# Altium schematic symbol library LM358AP.SchLib: 1 symbol
Pins are listed as number, name and electrical type; pins without a type are passive.

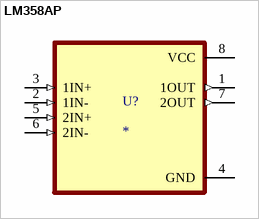
[diagram p0: symbol LM358AP]

## LM358AP
designator U?
MP: LM358AP; MF: {'manufacturer': u'Texas Instruments'}; Availability: Unavailable; Value: *; Price: None; Package: None
footprint DIP794W45P254L959H508Q8
pins: 1 1OUT (out), 2 1IN- (in), 3 1IN+ (in), 4 GND (power), 5 2IN+ (in), 6 2IN- (in), 7 2OUT (out), 8 VCC (power)